# EAGLE library part 690357101272 (library Wurth_Elektronik2)
WR-MM Male Connector with Polarization, 12 Pins=>Code : Con_BTB_MM_Male_THT_690357101272 <http://katalog.we-online.de/media/thumbs2/eican/thb_Con_BTB_MM_Male_THT_69035710xx72_pf2.jpg> Details see: http://katalog.we-online.de/en/em/6903_5710_xx_72 Created 2014-06-04, Karrer Zheng 2014 (C) Würth Elektronik
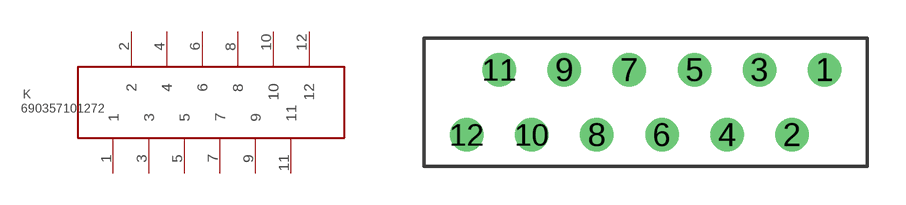
[diagram p324: symbol with the pads of 690357101272; footprint 690357101272]

Designator prefix K

## 690357101272  [690357101272]
1  1  pas
2  2  pas
3  3  pas
4  4  pas
5  5  pas
6  6  pas
7  7  pas
8  8  pas
9  9  pas
10  10  pas
11  11  pas
12  12  pas

## Footprint 690357101272 (pad centres in mm)
WR-MM Male Connector with Polarization, 12 Pins
drill 0.8: 1 6.985,1.315; 2 5.715,-1.225; 3 4.445,1.315; 4 3.175,-1.225; 5 1.905,1.315; 6 0.635,-1.225; 7 -0.635,1.315; 8 -1.905,-1.225; 9 -3.175,1.315; 10 -4.445,-1.225; 11 -5.715,1.315; 12 -6.985,-1.225